# Altium footprint library 光电隔离器.PcbLib: 17 footprints (part 2 of 2)
Each footprint in its own frame and in the unit in brackets; x right, y up, seen from the top. Pads: shape width x height; smd on the part's side, far side on the other; paste and mask are expansions set on the pad; w line width, h text height; cw(c..) or ccw(c..) is an arc to the next point about the centre after c.
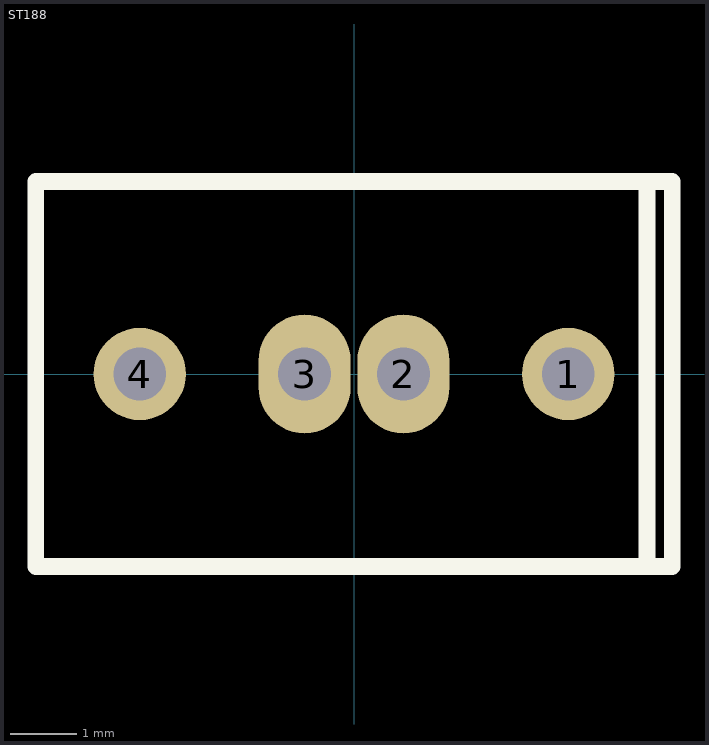
[diagram p1: the footprint, top view; thin cyan lines are the x and y axes]

## ST188 [mm] "反射型光耦"
pads (4):
  round 1.4 hole 0.8: 1(3.25,0) 4(-3.25,0)
  oval 1.4x1.8 hole 0.8: 2(0.75,0) 3(-0.75,0)
Top Overlay:
  lines w0.254: 4.445,-2.921 4.445,2.921 ; -4.826,-2.921 -4.826,2.921 4.826,2.921 4.826,-2.921 -4.826,-2.921
3D body "ST188.STEP": height 8.2, standoff -3.5, extent -4.7,-2.667 4.7,2.833